# Altium footprint library PCB - INDUCTOR - ABRACON ASPI-4030S.PCBLIB: 1 footprints
Each footprint in its own frame and in the unit in brackets; x right, y up, seen from the top. Pads: shape width x height; smd on the part's side, far side on the other; paste and mask are expansions set on the pad; w line width, h text height; cw(c..) or ccw(c..) is an arc to the next point about the centre after c.
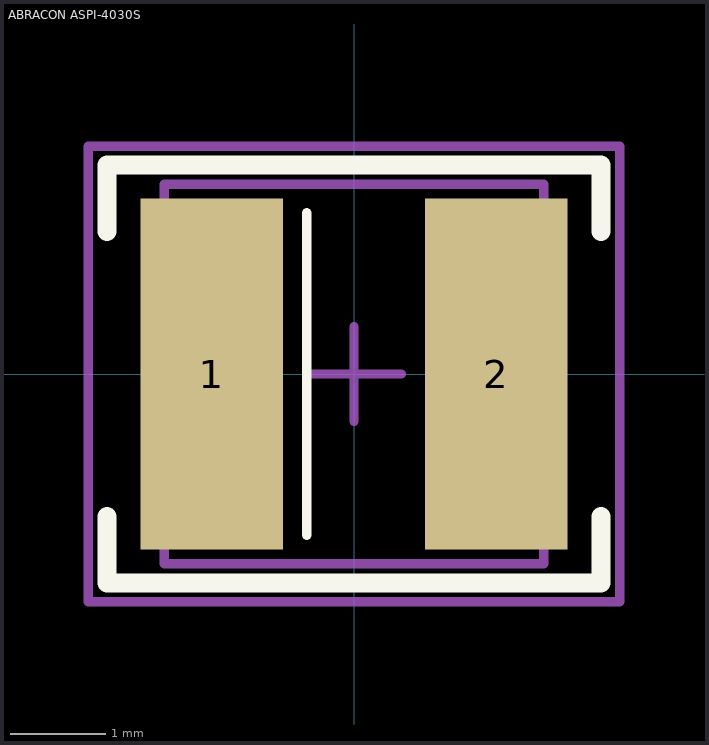
[diagram p0: the footprint, top view; thin cyan lines are the x and y axes]

## ABRACON ASPI-4030S [mm] "Precision Wire Wound Inductor, 2-Leads, Body 4.00x4.00mm, IPC Medium Density"
height 3
pads (2):
  rect 1.5x3.7 smd mask+0.1: 1(-1.5,0) 2(1.5,0)
Top Overlay:
  lines w0.1: -0.5,-1.7 -0.5,1.7
  lines w0.2: -2.6,-1.5 -2.6,-2.2 2.6,-2.2 2.6,-1.5 ; -2.6,1.5 -2.6,2.2 2.6,2.2 2.6,1.5
Mechanical 13:
  lines w0.1: -2,-2 2,-2 2,2 -2,2 -2,-2
Mechanical 15:
  lines w0.1: -0.5,0 0.5,0 ; 0,-0.5 0,0.5 ; -2.8,-2.4 2.8,-2.4 2.8,2.4 -2.8,2.4 -2.8,-2.4
3D body "Abracon - ASPI-4030S.STEP": height 3, standoff 0, extent -2,-2 2,2